# Altium footprint library EDR.PcbLib: 20 footprints (part 1 of 2)
Each footprint in its own frame and in the unit in brackets; x right, y up, seen from the top. Pads: shape width x height; smd on the part's side, far side on the other; paste and mask are expansions set on the pad; w line width, h text height; cw(c..) or ccw(c..) is an arc to the next point about the centre after c.
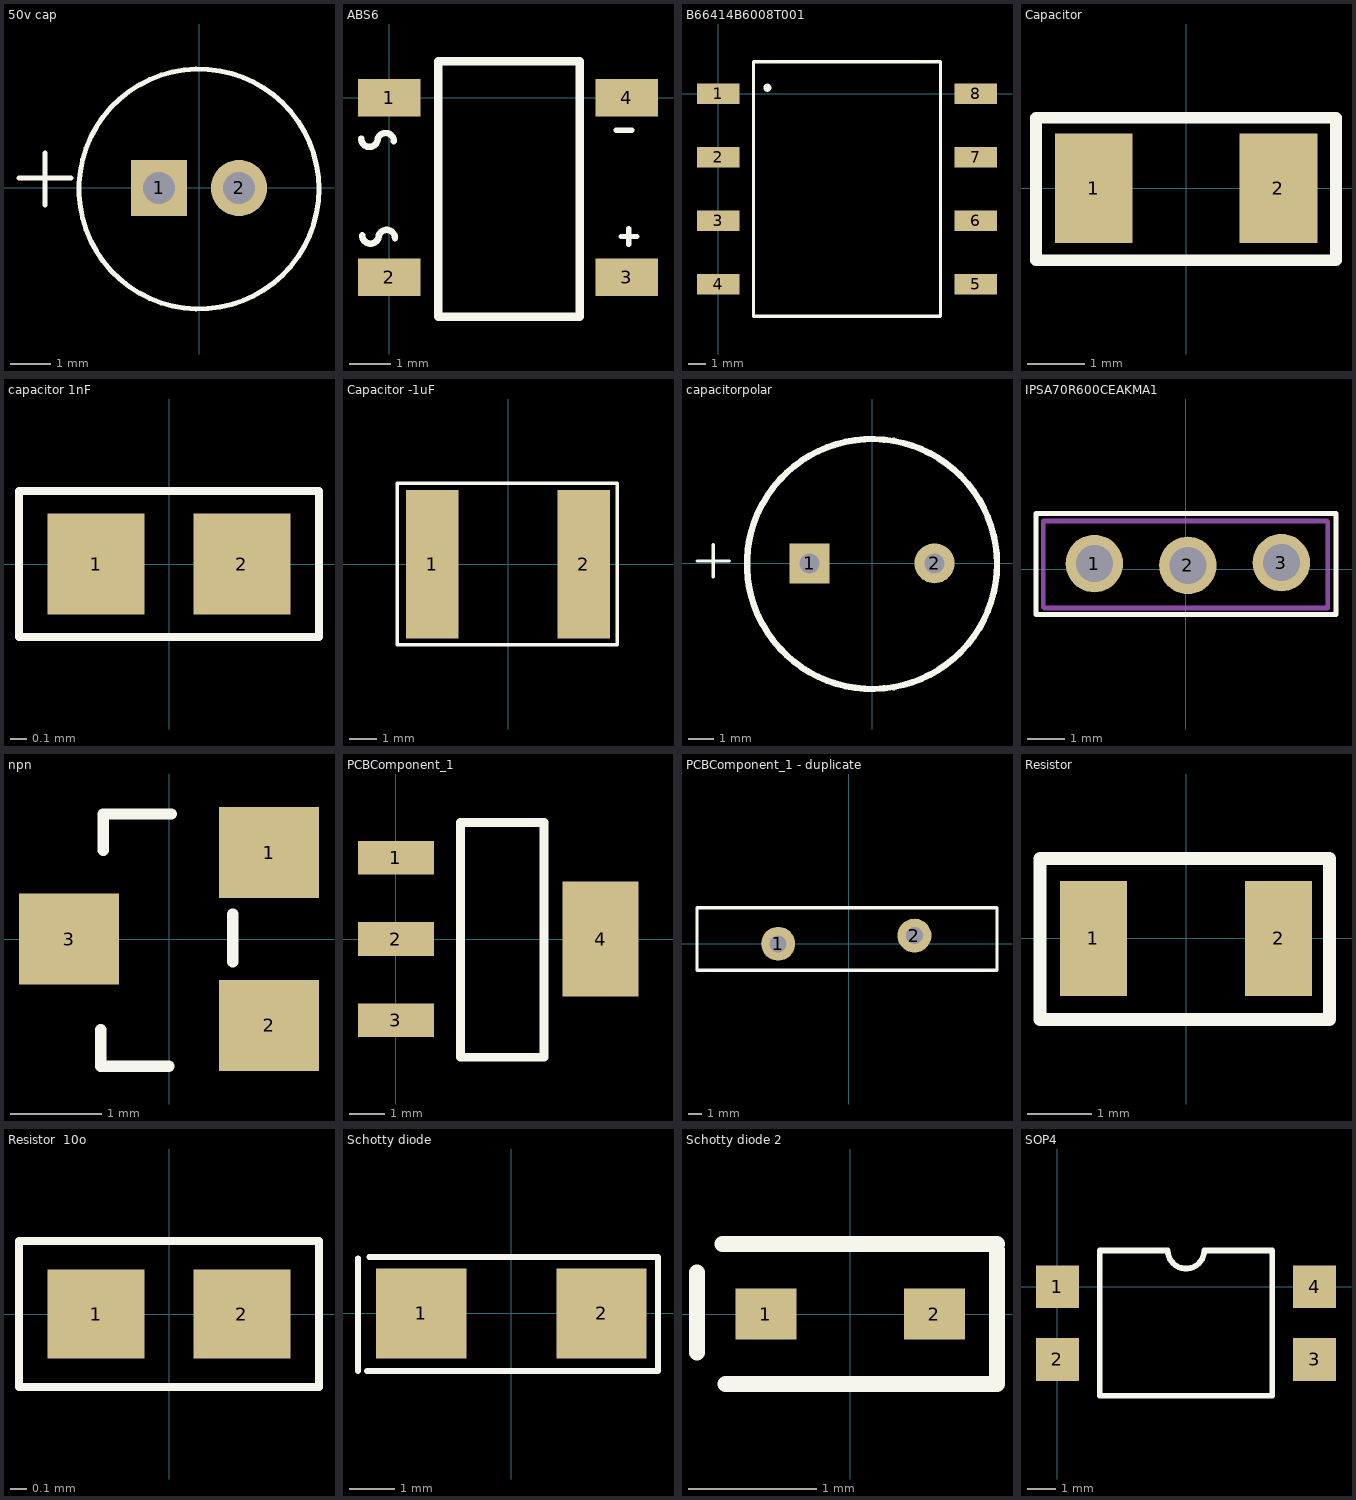
[diagram p0: the footprints below, top view; thin cyan lines are the x and y axes]

## 50v cap [mm]
pads (2):
  rect 1.4x1.4 hole 0.8: 1(-1,0)
  round 1.4 hole 0.8: 2(1,0)
Top Overlay:
  circle w0.125: c0,-0.025 r3
  lines w0.125: -4.5,0.25 -3.2,0.25 ; -3.85,-0.425 -3.85,0.875
3D body "ESK226M050AC3AA.step": height 12.52, standoff -19.99, extent -2.74,-2.861 2.75,2.65

## ABS6 [mm]
pads (4):
  rect 1.5x0.9 smd: 1(0,0) 2(0,-4.3) 3(5.7,-4.3) 4(5.7,0)
Top Overlay:
  lines w0.125: 5.45,-0.775 5.825,-0.775 ; 5.563,-3.325 5.938,-3.325 ; 5.75,-3.512 5.75,-3.137
  lines w0.154: -0.675,-0.975 ccw(c-0.475,-0.975) -0.275,-0.975 cw(c-0.087,-1.043) 0.113,-1.043 ; -0.65,-3.3 ccw(c-0.45,-3.3) -0.25,-3.3 cw(c-0.062,-3.368) 0.138,-3.368
  lines w0.2: 1.175,-5.25 1.175,0.875 4.575,0.875 4.575,-5.25 1.175,-5.25
3D body "ABS6.stp": height 1.6, standoff 0, extent -0.4,-4.65 6.05,0.35

## B66414B6008T001 [mm]
pads (8):
  rect 2.5x1.2 smd: 1(0,0) 2(0,-3.75) 3(0,-7.5) 4(0,-11.25) 5(15.2,-11.25) 6(15.2,-7.5) 7(15.2,-3.75) 8(15.2,0)
Top Overlay:
  circle w0.254: c2.9,0.35 r0.112
  lines w0.2: 2.085,-13.125 13.115,-13.125 13.115,1.875 8.537,1.875 2.085,1.875 2.085,-13.125
3D body "B66414B6008T001.stp": height 7.66, standoff -0.04, extent -2.5,-13.775 18.3,2.225

## Capacitor [mm] "1206"
pads (2):
  rect 1.35x1.9 smd: 1(-1.6,0) 2(1.6,0)
Top Overlay:
  lines w0.2: -2.6,-1.25 2.6,-1.25 2.6,1.225 -2.6,1.225 -2.6,-1.25
3D body "CAPC340180_140N_KEM.step": height 1.4, standoff 0, extent -1.7,-0.9 1.7,0.9

## capacitor 1nF [mm]
pads (2):
  rect 0.6x0.62 smd: 1(-0.45,0) 2(0.45,0)
Top Overlay:
  lines w0.05: -0.925,-0.45 -0.925,0.45 0.925,0.45 0.925,-0.45 -0.925,-0.45
3D body "RC0402FR-0710RL.step": height 0.39, standoff -0.01, extent -0.475,-0.25 0.525,0.25

## Capacitor -1uF [mm] "450V/1uF"
pads (2):
  rect 1.9x5.4 smd: 1(-2.75,0) 2(2.75,0)
Top Overlay:
  lines w0.125: -4.025,-2.925 3.975,-2.925 3.975,2.95 -4.025,2.95 -4.025,-2.925
3D body "CAP_5750_TDK.step": height 1.24, standoff 0, extent -3.073,-2.655 3.023,2.755

## capacitorpolar [mm]
pads (2):
  rect 1.6x1.6 hole 0.8: 1(-2.5,0)
  round 1.6 hole 0.8: 2(2.5,0)
Top Overlay:
  circle w0.254: c0,-0.025 r5
  lines w0.125: -7,0.1 -5.7,0.1 ; -6.35,-0.55 -6.35,0.75
3D body "ESK106M400AH2EA.step": height 18, standoff -19, extent -5.207,-5.4 5.257,5.1

## IPSA70R600CEAKMA1 [mm]
pads (3):
  round 1.55 hole 1: 1(-2.475,0.15) 2(0.05,0.1) 3(2.575,0.175)
Top Overlay:
  lines w0.125: -4.05,-1.225 4.05,-1.225 4.05,1.5 -4.05,1.5 -4.05,-1.225
Mechanical 1:
  lines w0.125: 3.825,-1.05 3.825,1.275 3.8,1.3 -3.85,1.3 -3.85,-1.025 -3.825,-1.05 3.825,-1.05 ; 3.825,-1.05 3.825,-1.05
3D body "PG-TO251-3-11_INF.step": height 11.41, standoff -2.69, extent -3.377,-1.035 3.355,1.353

## npn [mm] "BC846BLT3G"
pads (3):
  rect 1.1x1 smd: 1(1.1,0.95) 2(1.1,-0.95) 3(-1.1,0)
Top Overlay:
  lines w0.125: -0.75,-1 -0.75,-1.4 0,-1.4 ; -0.725,0.975 -0.725,1.375 0.025,1.375 ; 0.7,-0.25 0.7,0.275
3D body "SOT-23_ONS.step": height 1.12, standoff 0, extent -1.246,-1.549 1.396,1.499

## PCBComponent_1 [mm]
pads (4):
  rect 2.15x0.95 smd: 1(0,2.3) 2(0,0) 3(0,-2.3)
  rect 2.15x3.25 smd: 4(5.8,0)
Top Overlay:
  lines w0.254: 1.825,-3.35 4.2,-3.35 4.2,3.3 1.825,3.3 1.825,-3.35
3D body "SOT-223_DIO.step": height 1.65, standoff 0, extent -0.825,-3.45 6.275,3.1

## PCBComponent_1 - duplicate [mm]
pads (2):
  round 2.5 hole 1.25: 1(-5.2,0) 2(4.825,0.6)
Top Overlay:
  lines w0.254: -11.175,-1.95 10.9,-1.95 10.9,2.65 -11.175,2.65 -11.175,-1.95
3D body "MOV-20D681K.STEP": height 26.98, standoff -19, extent -11.725,-1.675 11.275,2.325

## Resistor [mm]
pads (2):
  rect 1.05x1.8 smd: 1(-1.45,0) 2(1.45,0)
Top Overlay:
  lines w0.2: -2.286,-1.27 2.25,-1.27 2.25,0.624 2.25,1.25 -2.286,1.25 -2.286,-0.872 -2.286,-1.27
3D body "RES_RCC1206_VIS.step": height 0.61, standoff 0, extent -1.651,-0.876 1.651,0.876

## Resistor  10o [mm]
pads (2):
  rect 0.6x0.55 smd: 1(-0.45,0) 2(0.45,0)
Top Overlay:
  lines w0.05: -0.925,-0.45 -0.925,0.45 0.925,0.45 0.925,-0.45 -0.925,-0.45
3D body "RC0402FR-0710RL.step": height 0.39, standoff -0.01, extent -0.475,-0.25 0.525,0.25

## Schotty diode [mm] "SS310A-F1-3000HF"
pads (2):
  rect 2x2 smd: 1(-2,0)
  rect 2x2 smd mask+0.102: 2(2,0)
Top Overlay:
  lines w0.125: -3.4,-1.275 -3.4,1.225 ; -3.2,-1.275 3.25,-1.275 3.25,1.225 ; -3.15,1.25 3.25,1.25
3D body "SS310-HF.stp": height 2.2, standoff 0, extent -2.55,-1.2 2.4,1.3

## Schotty diode 2 [mm] "RB520S30YL"
pads (2):
  rect 0.48x0.4 smd: 1(-0.66,0)
  rect 0.48x0.4 smd mask+0.102: 2(0.66,0)
Top Overlay:
  lines w0.125: -1.2,-0.3 -1.2,0.325 ; -1,0.55 1.15,0.55 ; -0.975,-0.55 1.15,-0.55 ; 1.15,-0.525 1.15,0.5
3D body "RB520S30YL.stp": height 0.63, standoff 0.01, extent -0.8,-0.425 0.8,0.405

## SOP4 [mm]
pads (4):
  rect 1.5x1.5 smd: 1(0,0) 2(0,-2.54) 3(9,-2.54) 4(9,0)
Top Overlay:
  lines w0.2: 1.485,-3.81 1.485,1.27 3.865,1.27 ccw(c4.5,1.27) 5.135,1.27 7.515,1.27 7.515,-3.81 1.485,-3.81
Multi-Layer:
  circle w0.254: c2.125,0.6 r0.106
3D body "LTV-817S_LTO.step": height -0.5, standoff -5.1, extent -0.757,-3.878 9.707,1.228